# Altium integrated library Micron Memory Mobile LPDRAM.IntLib: 146 symbols (part 30 of 41)
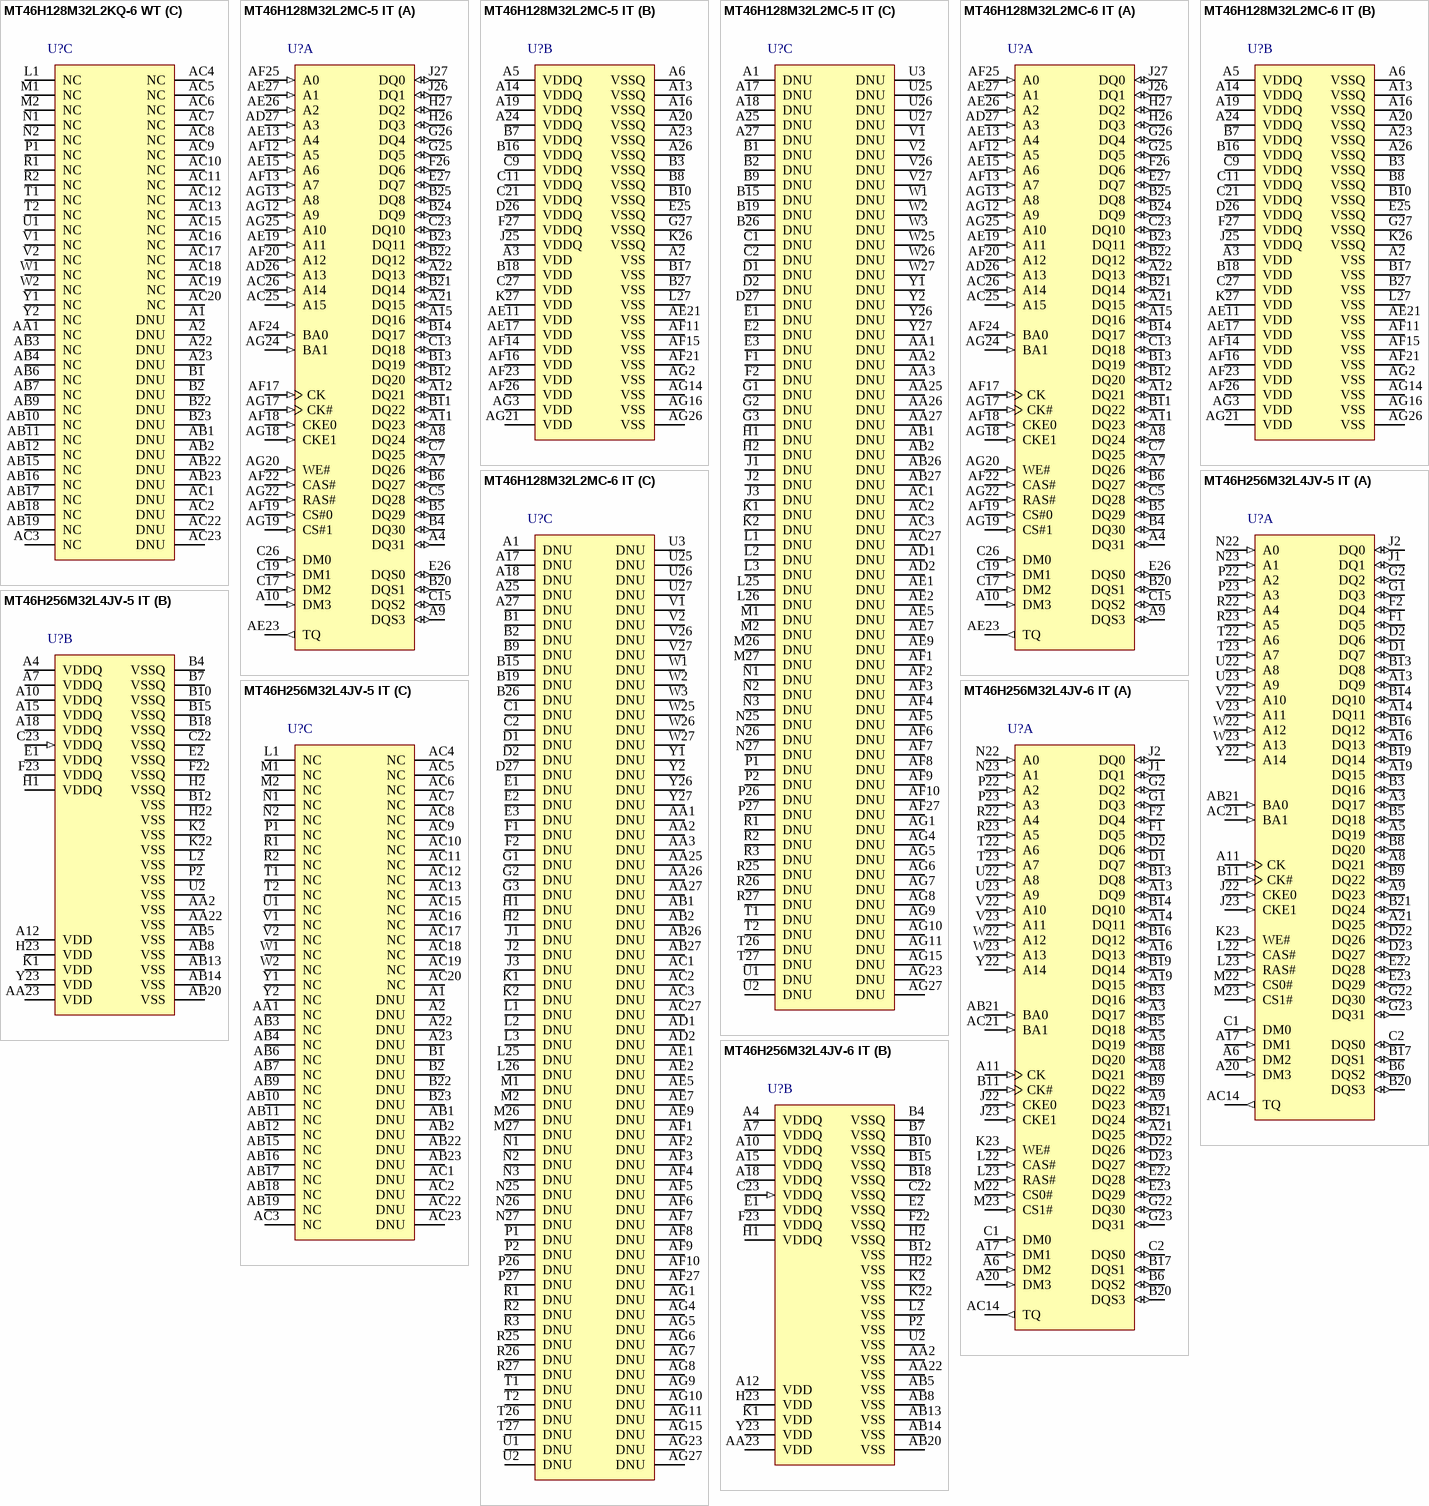
[diagram p53: symbols MT46H128M32L2KQ-6 WT to MT46H256M32L4JV-6 IT]

## MT46H128M32L2MC-5 IT
designator U?
4Gb LPDDR400 SDRAM, 128Mb x 32, 5ns, 1.8V, -40 to 85 degC, 240-Pin POP, Pb-Free; Manufacturer: Micron; PartNumber: MT46H128M32L2MC-5 IT; Clock Rate: 200 MHz; Op. Temp.: -40C to +85C; DatasheetVersion: Rev.E; PackageVersion: Rev.E; PackageReference: MICT-MC-240; PackageDescription: 240-Ball WFBGA, 14 x 14 mm, Pitch 0.5 mm; Cycle Time: 5ns; Data Rate: LPDDR400; Density: 4Gb; Depth: 128Mb; Package: POP; Part Status: Production; Pin Count: 240-ball; RoHS: Yes; Technology: Mobile LPDDR; Voltage: 1.8V; Width: x32; Mounting Technology: Surface Mount; ComponentLink1Description: Manufacturer URL; ComponentLink1URL: http://www.micron.com/; ComponentLink2Description: Datasheet; ComponentLink2URL: http://www.micron.com/~/media/Documents/Products/Data%20Sheet/DRAM/Mobile%20DRAM/Low-Power%20DRAM/LPDDR/70-series/T79M_2Gb_mobile_lpddr_sdram.pdf; ComponentLink3Description: Package Specification; ComponentLink3URL: http://www.micron.com/~/media/Documents/Products/Data%20Sheet/DRAM/Mobile%20DRAM/Low-Power%20DRAM/LPDDR/70-series/T79M_2Gb_mobile_lpddr_sdram.pdf
footprint MICT-MC-240 (BGA, 240-Balls, Body 14x14 mm, Pitch 0.5 mm)
part A pins: A4 DQ31 (io) "Data input/output: Data bus for x16 and x32.", A7 DQ26 (io) "Data input/output: Data bus for x16 and x32.", A8 DQ24 (io) "Data input/output: Data bus for x16 and x32.", A9 DQS3 (io) "Data input/output: Data bus for x16 and x32.", A10 DM3 (in) "Input data mask: DM is an input mask signal for write data. Input data is masked when DM is sampled HIGH along with that input data during a WRITE access. DM is sampled on both edges of DQS. Although DM balls are input-only, (See Datasheet)", A11 DQ23 (io) "Data input/output: Data bus for x16 and x32.", A12 DQ21 (io) "Data input/output: Data bus for x16 and x32.", A15 DQ16 (io) "Data input/output: Data bus for x16 and x32.", A21 DQ15 (io) "Data input/output: Data bus for x16 and x32.", A22 DQ13 (io) "Data input/output: Data bus for x16 and x32.", AC25 A15 (in) "Address inputs: Provide the row address for ACTIVE commands, and the column address and auto precharge bit (A10) for READ or WRITE commands, to select one location out of the memory array in the respective bank. During a (See Datasheet)", AC26 A14 (in) "Address inputs: Provide the row address for ACTIVE commands, and the column address and auto precharge bit (A10) for READ or WRITE commands, to select one location out of the memory array in the respective bank. During a (See Datasheet)", AD26 A13 (in) "Address inputs: Provide the row address for ACTIVE commands, and the column address and auto precharge bit (A10) for READ or WRITE commands, to select one location out of the memory array in the respective bank. During a (See Datasheet)", AD27 A3 (in) "Address inputs: Provide the row address for ACTIVE commands, and the column address and auto precharge bit (A10) for READ or WRITE commands, to select one location out of the memory array in the respective bank. During a (See Datasheet)", AE13 A4 (in) "Address inputs: Provide the row address for ACTIVE commands, and the column address and auto precharge bit (A10) for READ or WRITE commands, to select one location out of the memory array in the respective bank. During a (See Datasheet)", AE15 A6 (in) "Address inputs: Provide the row address for ACTIVE commands, and the column address and auto precharge bit (A10) for READ or WRITE commands, to select one location out of the memory array in the respective bank. During a (See Datasheet)", AE19 A11 (in) "Address inputs: Provide the row address for ACTIVE commands, and the column address and auto precharge bit (A10) for READ or WRITE commands, to select one location out of the memory array in the respective bank. During a (See Datasheet)", AE23 TQ (out) "Temperature sensor output: TQ HIGH when LPDDR TJ exceeds 85degreesC.", AE26 A2 (in) "Address inputs: Provide the row address for ACTIVE commands, and the column address and auto precharge bit (A10) for READ or WRITE commands, to select one location out of the memory array in the respective bank. During a (See Datasheet)", AE27 A1 (in) "Address inputs: Provide the row address for ACTIVE commands, and the column address and auto precharge bit (A10) for READ or WRITE commands, to select one location out of the memory array in the respective bank. During a (See Datasheet)", AF12 A5 (in) "Address inputs: Provide the row address for ACTIVE commands, and the column address and auto precharge bit (A10) for READ or WRITE commands, to select one location out of the memory array in the respective bank. During a (See Datasheet)", AF13 A7 (in) "Address inputs: Provide the row address for ACTIVE commands, and the column address and auto precharge bit (A10) for READ or WRITE commands, to select one location out of the memory array in the respective bank. During a (See Datasheet)", AF17 CK (in) "Clock: CK is the system clock input. CK and CK# are differential clock inputs. All address and control input signals are sampled on the crossing of the positive edge of CK and the negative edge of CK#. Input and output data (See Datasheet)", AF18 CKE0 (in) "Clock enable: CKE HIGH activates, and CKE LOW deactivates, the internal clock signals, input buffers, and output drivers. Taking CKE LOW enables PRECHARGE power-down and SELF REFRESH operations (all banks idle), or ACTIVE (See Datasheet)", AF19 CS#0 (in) "Chip select: CS# enables (registered LOW) and disables (registered HIGH) the command decoder. All commands are masked when CS# is registered HIGH. CS# provides for external bank selection on systems with multiple banks. CS# (See Datasheet)", AF20 A12 (in) "Address inputs: Provide the row address for ACTIVE commands, and the column address and auto precharge bit (A10) for READ or WRITE commands, to select one location out of the memory array in the respective bank. During a (See Datasheet)", AF22 CAS# (in), AF24 BA0 (in) "Bank address inputs: BA0 and BA1 define to which bank an ACTIVE, READ, WRITE, or PRECHARGE command is being applied. BA0 and BA1 also determine which mode register is loaded during a LOAD MODE REGISTER command.", AF25 A0 (in) "Address inputs: Provide the row address for ACTIVE commands, and the column address and auto precharge bit (A10) for READ or WRITE commands, to select one location out of the memory array in the respective bank. During a (See Datasheet)", AG12 A9 (in) "Address inputs: Provide the row address for ACTIVE commands, and the column address and auto precharge bit (A10) for READ or WRITE commands, to select one location out of the memory array in the respective bank. During a (See Datasheet)", AG13 A8 (in) "Address inputs: Provide the row address for ACTIVE commands, and the column address and auto precharge bit (A10) for READ or WRITE commands, to select one location out of the memory array in the respective bank. During a (See Datasheet)", AG17 CK# (in) "Clock: CK is the system clock input. CK and CK# are differential clock inputs. All address and control input signals are sampled on the crossing of the positive edge of CK and the negative edge of CK#. Input and output data (See Datasheet)", AG18 CKE1 (in) "Clock enable: CKE HIGH activates, and CKE LOW deactivates, the internal clock signals, input buffers, and output drivers. Taking CKE LOW enables PRECHARGE power-down and SELF REFRESH operations (all banks idle), or ACTIVE (See Datasheet)", AG19 CS#1 (in) "Chip select: CS# enables (registered LOW) and disables (registered HIGH) the command decoder. All commands are masked when CS# is registered HIGH. CS# provides for external bank selection on systems with multiple banks. CS# (See Datasheet)", AG20 WE# (in) "Command inputs: RAS#, CAS#, and WE# (along with CS#) define the command being entered.", AG22 RAS# (in) "Command inputs: RAS#, CAS#, and WE# (along with CS#) define the command being entered.", AG24 BA1 (in) "Bank address inputs: BA0 and BA1 define to which bank an ACTIVE, READ, WRITE, or PRECHARGE command is being applied. BA0 and BA1 also determine which mode register is loaded during a LOAD MODE REGISTER command.", AG25 A10 (in) "Address inputs: Provide the row address for ACTIVE commands, and the column address and auto precharge bit (A10) for READ or WRITE commands, to select one location out of the memory array in the respective bank. During a (See Datasheet)", B4 DQ30 (io) "Data input/output: Data bus for x16 and x32.", B5 DQ29 (io) "Data input/output: Data bus for x16 and x32.", B6 DQ27 (io) "Data input/output: Data bus for x16 and x32.", B11 DQ22 (io) "Data input/output: Data bus for x16 and x32.", B12 DQ20 (io) "Data input/output: Data bus for x16 and x32.", B13 DQ19 (io) "Data input/output: Data bus for x16 and x32.", B14 DQ17 (io) "Data input/output: Data bus for x16 and x32.", B20 DQS1 (io) "Data strobe: Output with read data, input with write data. DQS is edge-aligned with read data, center-aligned in write data. It is used to capture data.", B21 DQ14 (io) "Data input/output: Data bus for x16 and x32.", B22 DQ12 (io) "Data input/output: Data bus for x16 and x32.", B23 DQ11 (io) "Data input/output: Data bus for x16 and x32.", B24 DQ9 (io) "Data input/output: Data bus for x16 and x32.", B25 DQ8 (io) "Data input/output: Data bus for x16 and x32.", C5 DQ28 (io) "Data input/output: Data bus for x16 and x32.", C7 DQ25 (io) "Data input/output: Data bus for x16 and x32.", C13 DQ18 (io) "Data input/output: Data bus for x16 and x32.", C15 DQS2 (io) "Data strobe: Output with read data, input with write data. DQS is edge-aligned with read data, center-aligned in write data. It is used to capture data.", C17 DM2 (in) "Input data mask: DM is an input mask signal for write data. Input data is masked when DM is sampled HIGH along with that input data during a WRITE access. DM is sampled on both edges of DQS. Although DM balls are input-only, (See Datasheet)", C19 DM1 (in) "Input data mask: DM is an input mask signal for write data. Input data is masked when DM is sampled HIGH along with that input data during a WRITE access. DM is sampled on both edges of DQS. Although DM balls are input-only, (See Datasheet)", C23 DQ10 (io) "Data input/output: Data bus for x16 and x32.", C26 DM0 (in) "Input data mask: DM is an input mask signal for write data. Input data is masked when DM is sampled HIGH along with that input data during a WRITE access. DM is sampled on both edges of DQS. Although DM balls are input-only, (See Datasheet)", E26 DQS0 (io) "Data strobe: Output with read data, input with write data. DQS is edge-aligned with read data, center-aligned in write data. It is used to capture data.", E27 DQ7 (io) "Data input/output: Data bus for x16 and x32.", F26 DQ6 (io) "Data input/output: Data bus for x16 and x32.", G25 DQ5 (io) "Data input/output: Data bus for x16 and x32.", G26 DQ4 (io) "Data input/output: Data bus for x16 and x32.", H26 DQ3 (io) "Data input/output: Data bus for x16 and x32.", H27 DQ2 (io) "Data input/output: Data bus for x16 and x32.", J26 DQ1 (io) "Data input/output: Data bus for x16 and x32.", J27 DQ0 (io) "Data input/output: Data bus for x16 and x32."
part B pins: A2 VSS (power) "Ground.", A3 VDD (power) "Power supply.", A5 VDDQ (power) "DQ power supply.", A6 VSSQ (power) "DQ ground.", A13 VSSQ (power) "DQ ground.", A14 VDDQ (power) "DQ power supply.", A16 VSSQ (power) "DQ ground.", A19 VDDQ (power) "DQ power supply.", A20 VSSQ (power) "DQ ground.", A23 VSSQ (power) "DQ ground.", A24 VDDQ (power) "DQ power supply.", A26 VSSQ (power) "DQ ground.", AE11 VDD (power), AE17 VDD (power), AE21 VSS (power) "Ground.", AF11 VSS (power) "Ground.", AF14 VDD (power) "Power supply.", AF15 VSS (power) "Ground.", AF16 VDD (power) "Power supply.", AF21 VSS (power) "Ground.", AF23 VDD (power) "Power supply.", AF26 VDD (power) "Power supply.", AG2 VSS (power) "Ground.", AG3 VDD (power) "Power supply.", AG14 VSS (power) "Ground.", AG16 VSS (power) "Ground.", AG21 VDD (power) "Power supply.", AG26 VSS (power) "Ground.", B3 VSSQ (power) "DQ ground.", B7 VDDQ (power) "DQ power supply.", B8 VSSQ (power) "DQ ground.", B10 VSSQ (power) "DQ ground.", B16 VDDQ (power) "DQ power supply.", B17 VSS (power) "Ground.", B18 VDD (power) "Power supply.", B27 VSS (power) "Ground.", C9 VDDQ (power), C11 VDDQ (power), C21 VDDQ (power) "DQ power supply.", C27 VDD (power) "Power supply.", D26 VDDQ (power) "DQ power supply.", E25 VSSQ (power) "DQ ground.", F27 VDDQ (power) "DQ power supply.", G27 VSSQ (power), J25 VDDQ (power) "DQ power supply.", K26 VSSQ (power) "DQ ground.", K27 VDD (power) "Power supply.", L27 VSS (power) "Ground."
part C pins: A1 DNU, A17 DNU, A18 DNU, A25 DNU, A27 DNU, AA1 DNU, AA2 DNU, AA3 DNU, AA25 DNU, AA26 DNU, AA27 DNU, AB1 DNU, AB2 DNU, AB26 DNU, AB27 DNU, AC1 DNU, AC2 DNU, AC3 DNU, AC27 DNU, AD1 DNU, AD2 DNU, AE1 DNU, AE2 DNU, AE5 DNU, AE7 DNU, AE9 DNU, AF1 DNU, AF2 DNU, AF3 DNU, AF4 DNU, AF5 DNU, AF6 DNU, AF7 DNU, AF8 DNU, AF9 DNU, AF10 DNU, AF27 DNU, AG1 DNU, AG4 DNU, AG5 DNU, AG6 DNU, AG7 DNU, AG8 DNU, AG9 DNU, AG10 DNU, AG11 DNU, AG15 DNU, AG23 DNU, AG27 DNU, B1 DNU, B2 DNU, B9 DNU, B15 DNU, B19 DNU, B26 DNU, C1 DNU, C2 DNU, D1 DNU, D2 DNU, D27 DNU, E1 DNU, E2 DNU, E3 DNU, F1 DNU, F2 DNU, G1 DNU, G2 DNU, G3 DNU, H1 DNU, H2 DNU, J1 DNU, J2 DNU, J3 DNU, K1 DNU, K2 DNU, L1 DNU, L2 DNU, L3 DNU, L25 DNU, L26 DNU, M1 DNU, M2 DNU, M26 DNU, M27 DNU, N1 DNU, N2 DNU, N3 DNU, N25 DNU, N26 DNU, N27 DNU, P1 DNU, P2 DNU, P26 DNU, P27 DNU, R1 DNU, R2 DNU, R3 DNU, R25 DNU, R26 DNU, R27 DNU, T1 DNU, T2 DNU, T26 DNU, T27 DNU, U1 DNU, U2 DNU, U3 DNU, U25 DNU, U26 DNU, U27 DNU, V1 DNU, V2 DNU, V26 DNU, V27 DNU, W1 DNU, W2 DNU, W3 DNU, W25 DNU, W26 DNU, W27 DNU, Y1 DNU, Y2 DNU, Y26 DNU, Y27 DNU

## MT46H128M32L2MC-6 IT
designator U?
4Gb LPDDR333 SDRAM, 128Mb x 32, 6ns, 1.8V, -40 to 85 degC, 240-Pin POP, Pb-Free; Manufacturer: Micron; PartNumber: MT46H128M32L2MC-6 IT; Clock Rate: 167 MHz; Op. Temp.: -40C to +85C; DatasheetVersion: Rev.E; PackageVersion: Rev.E; PackageReference: MICT-MC-240; PackageDescription: 240-Ball WFBGA, 14 x 14 mm, Pitch 0.5 mm; Cycle Time: 6ns; Data Rate: LPDDR333; Density: 4Gb; Depth: 128Mb; Package: POP; Part Status: Production; Pin Count: 240-ball; RoHS: Yes; Technology: Mobile LPDDR; Voltage: 1.8V; Width: x32; Mounting Technology: Surface Mount; ComponentLink1Description: Manufacturer URL; ComponentLink1URL: http://www.micron.com/; ComponentLink2Description: Datasheet; ComponentLink2URL: http://www.micron.com/~/media/Documents/Products/Data%20Sheet/DRAM/Mobile%20DRAM/Low-Power%20DRAM/LPDDR/70-series/T79M_2Gb_mobile_lpddr_sdram.pdf; ComponentLink3Description: Package Specification; ComponentLink3URL: http://www.micron.com/~/media/Documents/Products/Data%20Sheet/DRAM/Mobile%20DRAM/Low-Power%20DRAM/LPDDR/70-series/T79M_2Gb_mobile_lpddr_sdram.pdf
footprint MICT-MC-240 (BGA, 240-Balls, Body 14x14 mm, Pitch 0.5 mm)
part A pins: A4 DQ31 (io) "Data input/output: Data bus for x16 and x32.", A7 DQ26 (io) "Data input/output: Data bus for x16 and x32.", A8 DQ24 (io) "Data input/output: Data bus for x16 and x32.", A9 DQS3 (io) "Data input/output: Data bus for x16 and x32.", A10 DM3 (in) "Input data mask: DM is an input mask signal for write data. Input data is masked when DM is sampled HIGH along with that input data during a WRITE access. DM is sampled on both edges of DQS. Although DM balls are input-only, (See Datasheet)", A11 DQ23 (io) "Data input/output: Data bus for x16 and x32.", A12 DQ21 (io) "Data input/output: Data bus for x16 and x32.", A15 DQ16 (io) "Data input/output: Data bus for x16 and x32.", A21 DQ15 (io) "Data input/output: Data bus for x16 and x32.", A22 DQ13 (io) "Data input/output: Data bus for x16 and x32.", AC25 A15 (in) "Address inputs: Provide the row address for ACTIVE commands, and the column address and auto precharge bit (A10) for READ or WRITE commands, to select one location out of the memory array in the respective bank. During a (See Datasheet)", AC26 A14 (in) "Address inputs: Provide the row address for ACTIVE commands, and the column address and auto precharge bit (A10) for READ or WRITE commands, to select one location out of the memory array in the respective bank. During a (See Datasheet)", AD26 A13 (in) "Address inputs: Provide the row address for ACTIVE commands, and the column address and auto precharge bit (A10) for READ or WRITE commands, to select one location out of the memory array in the respective bank. During a (See Datasheet)", AD27 A3 (in) "Address inputs: Provide the row address for ACTIVE commands, and the column address and auto precharge bit (A10) for READ or WRITE commands, to select one location out of the memory array in the respective bank. During a (See Datasheet)", AE13 A4 (in) "Address inputs: Provide the row address for ACTIVE commands, and the column address and auto precharge bit (A10) for READ or WRITE commands, to select one location out of the memory array in the respective bank. During a (See Datasheet)", AE15 A6 (in) "Address inputs: Provide the row address for ACTIVE commands, and the column address and auto precharge bit (A10) for READ or WRITE commands, to select one location out of the memory array in the respective bank. During a (See Datasheet)", AE19 A11 (in) "Address inputs: Provide the row address for ACTIVE commands, and the column address and auto precharge bit (A10) for READ or WRITE commands, to select one location out of the memory array in the respective bank. During a (See Datasheet)", AE23 TQ (out) "Temperature sensor output: TQ HIGH when LPDDR TJ exceeds 85degreesC.", AE26 A2 (in) "Address inputs: Provide the row address for ACTIVE commands, and the column address and auto precharge bit (A10) for READ or WRITE commands, to select one location out of the memory array in the respective bank. During a (See Datasheet)", AE27 A1 (in) "Address inputs: Provide the row address for ACTIVE commands, and the column address and auto precharge bit (A10) for READ or WRITE commands, to select one location out of the memory array in the respective bank. During a (See Datasheet)", AF12 A5 (in) "Address inputs: Provide the row address for ACTIVE commands, and the column address and auto precharge bit (A10) for READ or WRITE commands, to select one location out of the memory array in the respective bank. During a (See Datasheet)", AF13 A7 (in) "Address inputs: Provide the row address for ACTIVE commands, and the column address and auto precharge bit (A10) for READ or WRITE commands, to select one location out of the memory array in the respective bank. During a (See Datasheet)", AF17 CK (in) "Clock: CK is the system clock input. CK and CK# are differential clock inputs. All address and control input signals are sampled on the crossing of the positive edge of CK and the negative edge of CK#. Input and output data (See Datasheet)", AF18 CKE0 (in) "Clock enable: CKE HIGH activates, and CKE LOW deactivates, the internal clock signals, input buffers, and output drivers. Taking CKE LOW enables PRECHARGE power-down and SELF REFRESH operations (all banks idle), or ACTIVE (See Datasheet)", AF19 CS#0 (in) "Chip select: CS# enables (registered LOW) and disables (registered HIGH) the command decoder. All commands are masked when CS# is registered HIGH. CS# provides for external bank selection on systems with multiple banks. CS# (See Datasheet)", AF20 A12 (in) "Address inputs: Provide the row address for ACTIVE commands, and the column address and auto precharge bit (A10) for READ or WRITE commands, to select one location out of the memory array in the respective bank. During a (See Datasheet)", AF22 CAS# (in), AF24 BA0 (in) "Bank address inputs: BA0 and BA1 define to which bank an ACTIVE, READ, WRITE, or PRECHARGE command is being applied. BA0 and BA1 also determine which mode register is loaded during a LOAD MODE REGISTER command.", AF25 A0 (in) "Address inputs: Provide the row address for ACTIVE commands, and the column address and auto precharge bit (A10) for READ or WRITE commands, to select one location out of the memory array in the respective bank. During a (See Datasheet)", AG12 A9 (in) "Address inputs: Provide the row address for ACTIVE commands, and the column address and auto precharge bit (A10) for READ or WRITE commands, to select one location out of the memory array in the respective bank. During a (See Datasheet)", AG13 A8 (in) "Address inputs: Provide the row address for ACTIVE commands, and the column address and auto precharge bit (A10) for READ or WRITE commands, to select one location out of the memory array in the respective bank. During a (See Datasheet)", AG17 CK# (in) "Clock: CK is the system clock input. CK and CK# are differential clock inputs. All address and control input signals are sampled on the crossing of the positive edge of CK and the negative edge of CK#. Input and output data (See Datasheet)", AG18 CKE1 (in) "Clock enable: CKE HIGH activates, and CKE LOW deactivates, the internal clock signals, input buffers, and output drivers. Taking CKE LOW enables PRECHARGE power-down and SELF REFRESH operations (all banks idle), or ACTIVE (See Datasheet)", AG19 CS#1 (in) "Chip select: CS# enables (registered LOW) and disables (registered HIGH) the command decoder. All commands are masked when CS# is registered HIGH. CS# provides for external bank selection on systems with multiple banks. CS# (See Datasheet)", AG20 WE# (in) "Command inputs: RAS#, CAS#, and WE# (along with CS#) define the command being entered.", AG22 RAS# (in) "Command inputs: RAS#, CAS#, and WE# (along with CS#) define the command being entered.", AG24 BA1 (in) "Bank address inputs: BA0 and BA1 define to which bank an ACTIVE, READ, WRITE, or PRECHARGE command is being applied. BA0 and BA1 also determine which mode register is loaded during a LOAD MODE REGISTER command.", AG25 A10 (in) "Address inputs: Provide the row address for ACTIVE commands, and the column address and auto precharge bit (A10) for READ or WRITE commands, to select one location out of the memory array in the respective bank. During a (See Datasheet)", B4 DQ30 (io) "Data input/output: Data bus for x16 and x32.", B5 DQ29 (io) "Data input/output: Data bus for x16 and x32.", B6 DQ27 (io) "Data input/output: Data bus for x16 and x32.", B11 DQ22 (io) "Data input/output: Data bus for x16 and x32.", B12 DQ20 (io) "Data input/output: Data bus for x16 and x32.", B13 DQ19 (io) "Data input/output: Data bus for x16 and x32.", B14 DQ17 (io) "Data input/output: Data bus for x16 and x32.", B20 DQS1 (io) "Data strobe: Output with read data, input with write data. DQS is edge-aligned with read data, center-aligned in write data. It is used to capture data.", B21 DQ14 (io) "Data input/output: Data bus for x16 and x32.", B22 DQ12 (io) "Data input/output: Data bus for x16 and x32.", B23 DQ11 (io) "Data input/output: Data bus for x16 and x32.", B24 DQ9 (io) "Data input/output: Data bus for x16 and x32.", B25 DQ8 (io) "Data input/output: Data bus for x16 and x32.", C5 DQ28 (io) "Data input/output: Data bus for x16 and x32.", C7 DQ25 (io) "Data input/output: Data bus for x16 and x32.", C13 DQ18 (io) "Data input/output: Data bus for x16 and x32.", C15 DQS2 (io) "Data strobe: Output with read data, input with write data. DQS is edge-aligned with read data, center-aligned in write data. It is used to capture data.", C17 DM2 (in) "Input data mask: DM is an input mask signal for write data. Input data is masked when DM is sampled HIGH along with that input data during a WRITE access. DM is sampled on both edges of DQS. Although DM balls are input-only, (See Datasheet)", C19 DM1 (in) "Input data mask: DM is an input mask signal for write data. Input data is masked when DM is sampled HIGH along with that input data during a WRITE access. DM is sampled on both edges of DQS. Although DM balls are input-only, (See Datasheet)", C23 DQ10 (io) "Data input/output: Data bus for x16 and x32.", C26 DM0 (in) "Input data mask: DM is an input mask signal for write data. Input data is masked when DM is sampled HIGH along with that input data during a WRITE access. DM is sampled on both edges of DQS. Although DM balls are input-only, (See Datasheet)", E26 DQS0 (io) "Data strobe: Output with read data, input with write data. DQS is edge-aligned with read data, center-aligned in write data. It is used to capture data.", E27 DQ7 (io) "Data input/output: Data bus for x16 and x32.", F26 DQ6 (io) "Data input/output: Data bus for x16 and x32.", G25 DQ5 (io) "Data input/output: Data bus for x16 and x32.", G26 DQ4 (io) "Data input/output: Data bus for x16 and x32.", H26 DQ3 (io) "Data input/output: Data bus for x16 and x32.", H27 DQ2 (io) "Data input/output: Data bus for x16 and x32.", J26 DQ1 (io) "Data input/output: Data bus for x16 and x32.", J27 DQ0 (io) "Data input/output: Data bus for x16 and x32."
part B pins: A2 VSS (power) "Ground.", A3 VDD (power) "Power supply.", A5 VDDQ (power) "DQ power supply.", A6 VSSQ (power) "DQ ground.", A13 VSSQ (power) "DQ ground.", A14 VDDQ (power) "DQ power supply.", A16 VSSQ (power) "DQ ground.", A19 VDDQ (power) "DQ power supply.", A20 VSSQ (power) "DQ ground.", A23 VSSQ (power) "DQ ground.", A24 VDDQ (power) "DQ power supply.", A26 VSSQ (power) "DQ ground.", AE11 VDD (power), AE17 VDD (power), AE21 VSS (power) "Ground.", AF11 VSS (power) "Ground.", AF14 VDD (power) "Power supply.", AF15 VSS (power) "Ground.", AF16 VDD (power) "Power supply.", AF21 VSS (power) "Ground.", AF23 VDD (power) "Power supply.", AF26 VDD (power) "Power supply.", AG2 VSS (power) "Ground.", AG3 VDD (power) "Power supply.", AG14 VSS (power) "Ground.", AG16 VSS (power) "Ground.", AG21 VDD (power) "Power supply.", AG26 VSS (power) "Ground.", B3 VSSQ (power) "DQ ground.", B7 VDDQ (power) "DQ power supply.", B8 VSSQ (power) "DQ ground.", B10 VSSQ (power) "DQ ground.", B16 VDDQ (power) "DQ power supply.", B17 VSS (power) "Ground.", B18 VDD (power) "Power supply.", B27 VSS (power) "Ground.", C9 VDDQ (power), C11 VDDQ (power), C21 VDDQ (power) "DQ power supply.", C27 VDD (power) "Power supply.", D26 VDDQ (power) "DQ power supply.", E25 VSSQ (power) "DQ ground.", F27 VDDQ (power) "DQ power supply.", G27 VSSQ (power), J25 VDDQ (power) "DQ power supply.", K26 VSSQ (power) "DQ ground.", K27 VDD (power) "Power supply.", L27 VSS (power) "Ground."
part C pins: A1 DNU, A17 DNU, A18 DNU, A25 DNU, A27 DNU, AA1 DNU, AA2 DNU, AA3 DNU, AA25 DNU, AA26 DNU, AA27 DNU, AB1 DNU, AB2 DNU, AB26 DNU, AB27 DNU, AC1 DNU, AC2 DNU, AC3 DNU, AC27 DNU, AD1 DNU, AD2 DNU, AE1 DNU, AE2 DNU, AE5 DNU, AE7 DNU, AE9 DNU, AF1 DNU, AF2 DNU, AF3 DNU, AF4 DNU, AF5 DNU, AF6 DNU, AF7 DNU, AF8 DNU, AF9 DNU, AF10 DNU, AF27 DNU, AG1 DNU, AG4 DNU, AG5 DNU, AG6 DNU, AG7 DNU, AG8 DNU, AG9 DNU, AG10 DNU, AG11 DNU, AG15 DNU, AG23 DNU, AG27 DNU, B1 DNU, B2 DNU, B9 DNU, B15 DNU, B19 DNU, B26 DNU, C1 DNU, C2 DNU, D1 DNU, D2 DNU, D27 DNU, E1 DNU, E2 DNU, E3 DNU, F1 DNU, F2 DNU, G1 DNU, G2 DNU, G3 DNU, H1 DNU, H2 DNU, J1 DNU, J2 DNU, J3 DNU, K1 DNU, K2 DNU, L1 DNU, L2 DNU, L3 DNU, L25 DNU, L26 DNU, M1 DNU, M2 DNU, M26 DNU, M27 DNU, N1 DNU, N2 DNU, N3 DNU, N25 DNU, N26 DNU, N27 DNU, P1 DNU, P2 DNU, P26 DNU, P27 DNU, R1 DNU, R2 DNU, R3 DNU, R25 DNU, R26 DNU, R27 DNU, T1 DNU, T2 DNU, T26 DNU, T27 DNU, U1 DNU, U2 DNU, U3 DNU, U25 DNU, U26 DNU, U27 DNU, V1 DNU, V2 DNU, V26 DNU, V27 DNU, W1 DNU, W2 DNU, W3 DNU, W25 DNU, W26 DNU, W27 DNU, Y1 DNU, Y2 DNU, Y26 DNU, Y27 DNU

## MT46H256M32L4JV-5 IT
designator U?
8Gb LPDDR400 SDRAM, 256Mb x 32, 5ns, 1.8V, -40 to 85 degC, 168-Pin POP, Pb-Free; Manufacturer: Micron; PartNumber: MT46H256M32L4JV-5 IT; Clock Rate: 200 MHz; Op. Temp.: -40C to +85C; DatasheetVersion: Rev.E; PackageVersion: Rev.E; PackageReference: MICT-JV-168; PackageDescription: 168-Ball POP, 12 x 12 mm, Pitch 0.5 mm; Cycle Time: 5ns; Data Rate: LPDDR400; Density: 8Gb; Depth: 256Mb; Package: POP; Part Status: Production; Pin Count: 168-ball; RoHS: Yes; Technology: Mobile LPDDR; Voltage: 1.8V; Width: x32; Mounting Technology: Surface Mount; ComponentLink1Description: Manufacturer URL; ComponentLink1URL: http://www.micron.com/; ComponentLink2Description: Datasheet; ComponentLink2URL: http://www.micron.com/~/media/Documents/Products/Data%20Sheet/DRAM/Mobile%20DRAM/Low-Power%20DRAM/LPDDR/70-series/T79M_2Gb_mobile_lpddr_sdram.pdf; ComponentLink3Description: Package Specification; ComponentLink3URL: http://www.micron.com/~/media/Documents/Products/Data%20Sheet/DRAM/Mobile%20DRAM/Low-Power%20DRAM/LPDDR/70-series/T79M_2Gb_mobile_lpddr_sdram.pdf
footprint MICT-JV-168 (BGA, 168-Balls, Body 12x12mm, Pitch 0.5mm)
part A pins: A3 DQ17 (io) "Data input/output: Data bus for x16 and x32.", A5 DQ19 (io) "Data input/output: Data bus for x16 and x32.", A6 DM2 (in) "Input data mask: DM is an input mask signal for write data. Input data is masked when DM is sampled HIGH along with that input data during a WRITE access. DM is sampled on both edges of DQS. Although DM balls are input-only, (See Datasheet)", A8 DQ21 (io) "Data input/output: Data bus for x16 and x32.", A9 DQ23 (io) "Data input/output: Data bus for x16 and x32.", A11 CK (in) "Clock: CK is the system clock input. CK and CK# are differential clock inputs. All address and control input signals are sampled on the crossing of the positive edge of CK and the negative edge of CK#. Input and output data (See Datasheet)", A13 DQ9 (io) "Data input/output: Data bus for x16 and x32.", A14 DQ11 (io) "Data input/output: Data bus for x16 and x32.", A16 DQ13 (io) "Data input/output: Data bus for x16 and x32.", A17 DM1 (in) "Input data mask: DM is an input mask signal for write data. Input data is masked when DM is sampled HIGH along with that input data during a WRITE access. DM is sampled on both edges of DQS. Although DM balls are input-only, (See Datasheet)", A19 DQ15 (io) "Data input/output: Data bus for x16 and x32.", A20 DM3 (in) "Input data mask: DM is an input mask signal for write data. Input data is masked when DM is sampled HIGH along with that input data during a WRITE access. DM is sampled on both edges of DQS. Although DM balls are input-only, (See Datasheet)", A21 DQ25 (io) "Data input/output: Data bus for x16 and x32.", AB21 BA0 (in) "Bank address inputs: BA0 and BA1 define to which bank an ACTIVE, READ, WRITE, or PRECHARGE command is being applied. BA0 and BA1 also determine which mode register is loaded during a LOAD MODE REGISTER command.", AC14 TQ (out) "Temperature sensor output: TQ HIGH when LPDDR TJ exceeds 85degreesC.", AC21 BA1 (in) "Bank address inputs: BA0 and BA1 define to which bank an ACTIVE, READ, WRITE, or PRECHARGE command is being applied. BA0 and BA1 also determine which mode register is loaded during a LOAD MODE REGISTER command.", B3 DQ16 (io) "Data input/output: Data bus for x16 and x32.", B5 DQ18 (io) "Data input/output: Data bus for x16 and x32.", B6 DQS2 (io) "Data strobe: Output with read data, input with write data. DQS is edge-aligned with read data, center-aligned in write data. It is used to capture data.", B8 DQ20 (io) "Data input/output: Data bus for x16 and x32.", B9 DQ22 (io) "Data input/output: Data bus for x16 and x32.", B11 CK# (in) "Clock: CK is the system clock input. CK and CK# are differential clock inputs. All address and control input signals are sampled on the crossing of the positive edge of CK and the negative edge of CK#. Input and output data (See Datasheet)", B13 DQ8 (io) "Data input/output: Data bus for x16 and x32.", B14 DQ10 (io) "Data input/output: Data bus for x16 and x32.", B16 DQ12 (io) "Data input/output: Data bus for x16 and x32.", B17 DQS1 (io) "Data strobe: Output with read data, input with write data. DQS is edge-aligned with read data, center-aligned in write data. It is used to capture data.", B19 DQ14 (io) "Data input/output: Data bus for x16 and x32.", B20 DQS3 (io) "Data strobe: Output with read data, input with write data. DQS is edge-aligned with read data, center-aligned in write data. It is used to capture data.", B21 DQ24 (io) "Data input/output: Data bus for x16 and x32.", C1 DM0 (in) "Input data mask: DM is an input mask signal for write data. Input data is masked when DM is sampled HIGH along with that input data during a WRITE access. DM is sampled on both edges of DQS. Although DM balls are input-only, (See Datasheet)", C2 DQS0 (io) "Data strobe: Output with read data, input with write data. DQS is edge-aligned with read data, center-aligned in write data. It is used to capture data.", D1 DQ7 (io) "Data input/output: Data bus for x16 and x32.", D2 DQ6 (io) "Data input/output: Data bus for x16 and x32.", D22 DQ26 (io) "Data input/output: Data bus for x16 and x32.", D23 DQ27 (io) "Data input/output: Data bus for x16 and x32.", E22 DQ28 (io) "Data input/output: Data bus for x16 and x32.", E23 DQ29 (io) "Data input/output: Data bus for x16 and x32.", F1 DQ5 (io) "Data input/output: Data bus for x16 and x32.", F2 DQ4 (io) "Data input/output: Data bus for x16 and x32.", G1 DQ3 (io) "Data input/output: Data bus for x16 and x32.", G2 DQ2 (io) "Data input/output: Data bus for x16 and x32.", G22 DQ30 (io) "Data input/output: Data bus for x16 and x32.", G23 DQ31 (io) "Data input/output: Data bus for x16 and x32.", J1 DQ1 (io) "Data input/output: Data bus for x16 and x32.", J2 DQ0 (io) "Data input/output: Data bus for x16 and x32.", J22 CKE0 (in) "Clock enable: CKE HIGH activates, and CKE LOW deactivates, the internal clock signals, input buffers, and output drivers. Taking CKE LOW enables PRECHARGE power-down and SELF REFRESH operations (all banks idle), or ACTIVE (See Datasheet)", J23 CKE1 (in) "Clock enable: CKE HIGH activates, and CKE LOW deactivates, the internal clock signals, input buffers, and output drivers. Taking CKE LOW enables PRECHARGE power-down and SELF REFRESH operations (all banks idle), or ACTIVE (See Datasheet)", K23 WE# (in) "Command inputs: RAS#, CAS#, and WE# (along with CS#) define the command being entered.", L22 CAS# (in) "Command inputs: RAS#, CAS#, and WE# (along with CS#) define the command being entered.", L23 RAS# (in) "Command inputs: RAS#, CAS#, and WE# (along with CS#) define the command being entered.", M22 CS0# (in) "Chip select: CS# enables (registered LOW) and disables (registered HIGH) the command decoder. All commands are masked when CS# is registered HIGH. CS# provides for external bank selection on systems with multiple banks. CS# (See Datasheet)", M23 CS1# (in) "Chip select: CS# enables (registered LOW) and disables (registered HIGH) the command decoder. All commands are masked when CS# is registered HIGH. CS# provides for external bank selection on systems with multiple banks. CS# (See Datasheet)", N22 A0 (in) "Address inputs: Provide the row address for ACTIVE commands, and the column address and auto precharge bit (A10) for READ or WRITE commands, to select one location out of the memory array in the respective bank. During a (See Datasheet)", N23 A1 (in) "Address inputs: Provide the row address for ACTIVE commands, and the column address and auto precharge bit (A10) for READ or WRITE commands, to select one location out of the memory array in the respective bank. During a (See Datasheet)", P22 A2 (in) "Address inputs: Provide the row address for ACTIVE commands, and the column address and auto precharge bit (A10) for READ or WRITE commands, to select one location out of the memory array in the respective bank. During a (See Datasheet)", P23 A3 (in) "Address inputs: Provide the row address for ACTIVE commands, and the column address and auto precharge bit (A10) for READ or WRITE commands, to select one location out of the memory array in the respective bank. During a (See Datasheet)", R22 A4 (in) "Address inputs: Provide the row address for ACTIVE commands, and the column address and auto precharge bit (A10) for READ or WRITE commands, to select one location out of the memory array in the respective bank. During a (See Datasheet)", R23 A5 (in) "Address inputs: Provide the row address for ACTIVE commands, and the column address and auto precharge bit (A10) for READ or WRITE commands, to select one location out of the memory array in the respective bank. During a (See Datasheet)", T22 A6 (in) "Address inputs: Provide the row address for ACTIVE commands, and the column address and auto precharge bit (A10) for READ or WRITE commands, to select one location out of the memory array in the respective bank. During a (See Datasheet)", T23 A7 (in) "Address inputs: Provide the row address for ACTIVE commands, and the column address and auto precharge bit (A10) for READ or WRITE commands, to select one location out of the memory array in the respective bank. During a (See Datasheet)", U22 A8 (in) "Address inputs: Provide the row address for ACTIVE commands, and the column address and auto precharge bit (A10) for READ or WRITE commands, to select one location out of the memory array in the respective bank. During a (See Datasheet)", U23 A9 (in) "Address inputs: Provide the row address for ACTIVE commands, and the column address and auto precharge bit (A10) for READ or WRITE commands, to select one location out of the memory array in the respective bank. During a (See Datasheet)", V22 A10 (in) "Address inputs: Provide the row address for ACTIVE commands, and the column address and auto precharge bit (A10) for READ or WRITE commands, to select one location out of the memory array in the respective bank. During a (See Datasheet)", V23 A11 (in) "Address inputs: Provide the row address for ACTIVE commands, and the column address and auto precharge bit (A10) for READ or WRITE commands, to select one location out of the memory array in the respective bank. During a (See Datasheet)", W22 A12 (in) "Address inputs: Provide the row address for ACTIVE commands, and the column address and auto precharge bit (A10) for READ or WRITE commands, to select one location out of the memory array in the respective bank. During a (See Datasheet)", W23 A13 (in) "Address inputs: Provide the row address for ACTIVE commands, and the column address and auto precharge bit (A10) for READ or WRITE commands, to select one location out of the memory array in the respective bank. During a (See Datasheet)", Y22 A14 (in) "Address inputs: Provide the row address for ACTIVE commands, and the column address and auto precharge bit (A10) for READ or WRITE commands, to select one location out of the memory array in the respective bank. During a (See Datasheet)"
part B pins: A4 VDDQ (power) "DQ power supply.", A7 VDDQ (power) "DQ power supply.", A10 VDDQ (power) "DQ power supply.", A12 VDD (power) "DQ power supply.", A15 VDDQ (power) "DQ power supply.", A18 VDDQ (power) "DQ power supply.", AA2 VSS (power) "Ground.", AA22 VSS (power) "Ground.", AA23 VDD (power) "Power supply.", AB5 VSS (power) "Ground.", AB8 VSS (power) "Ground.", AB13 VSS (power) "Ground.", AB14 VSS (power) "Ground.", AB20 VSS (power) "Ground.", B4 VSSQ (power) "DQ ground.", B7 VSSQ (power) "DQ ground.", B10 VSSQ (power) "DQ ground.", B12 VSS (power) "Ground.", B15 VSSQ (power) "DQ ground.", B18 VSSQ (power) "DQ ground.", C22 VSSQ (power) "DQ ground.", C23 VDDQ (in) "DQ power supply.", E1 VDDQ (power) "DQ power supply.", E2 VSSQ (power) "DQ ground.", F22 VSSQ (power) "DQ ground.", F23 VDDQ (power) "DQ power supply.", H1 VDDQ (power) "DQ power supply.", H2 VSSQ (power) "DQ ground.", H22 VSS (power) "Ground.", H23 VDD (power) "Power supply.", K1 VDD (power) "Power supply.", K2 VSS (power) "Ground.", K22 VSS (power) "Ground.", L2 VSS (power) "Ground.", P2 VSS (power) "Ground.", U2 VSS (power) "Ground.", Y23 VDD (power) "Power supply."
part C pins: A1 DNU "Do not used.", A2 DNU "Do not used.", A22 DNU "Do not used.", A23 DNU "Do not used.", AA1 NC "No connect: May be left unconnected.", AB1 DNU "Do not used.", AB2 DNU "Do not used.", AB3 NC "No connect: May be left unconnected.", AB4 NC "No connect: May be left unconnected.", AB6 NC "No connect: May be left unconnected.", AB7 NC "No connect: May be left unconnected.", AB9 NC "No connect: May be left unconnected.", AB10 NC "No connect: May be left unconnected.", AB11 NC "No connect: May be left unconnected.", AB12 NC "No connect: May be left unconnected.", AB15 NC "No connect: May be left unconnected.", AB16 NC "No connect: May be left unconnected.", AB17 NC "No connect: May be left unconnected.", AB18 NC "No connect: May be left unconnected.", AB19 NC "No connect: May be left unconnected.", AB22 DNU "Do not used.", AB23 DNU "Do not used.", AC1 DNU "Do not used.", AC2 DNU "Do not used.", AC3 NC "No connect: May be left unconnected.", AC4 NC "No connect: May be left unconnected.", AC5 NC "No connect: May be left unconnected.", AC6 NC "No connect: May be left unconnected.", AC7 NC "No connect: May be left unconnected.", AC8 NC "No connect: May be left unconnected.", AC9 NC "No connect: May be left unconnected.", AC10 NC "No connect: May be left unconnected.", AC11 NC "No connect: May be left unconnected.", AC12 NC "No connect: May be left unconnected.", AC13 NC "No connect: May be left unconnected.", AC15 NC "No connect: May be left unconnected.", AC16 NC "No connect: May be left unconnected.", AC17 NC "No connect: May be left unconnected.", AC18 NC "No connect: May be left unconnected.", AC19 NC "No connect: May be left unconnected.", AC20 NC "No connect: May be left unconnected.", AC22 DNU "Do not used.", AC23 DNU "Do not used.", B1 DNU "Do not used.", B2 DNU "Do not used.", B22 DNU "Do not used.", B23 DNU "Do not used.", L1 NC "No connect: May be left unconnected.", M1 NC "No connect: May be left unconnected.", M2 NC "No connect: May be left unconnected.", N1 NC "No connect: May be left unconnected.", N2 NC "No connect: May be left unconnected.", P1 NC "No connect: May be left unconnected.", R1 NC "No connect: May be left unconnected.", R2 NC "No connect: May be left unconnected.", T1 NC "No connect: May be left unconnected.", T2 NC "No connect: May be left unconnected.", U1 NC "No connect: May be left unconnected.", V1 NC "No connect: May be left unconnected.", V2 NC "No connect: May be left unconnected.", W1 NC "No connect: May be left unconnected.", W2 NC "No connect: May be left unconnected.", Y1 NC "No connect: May be left unconnected.", Y2 NC "No connect: May be left unconnected."

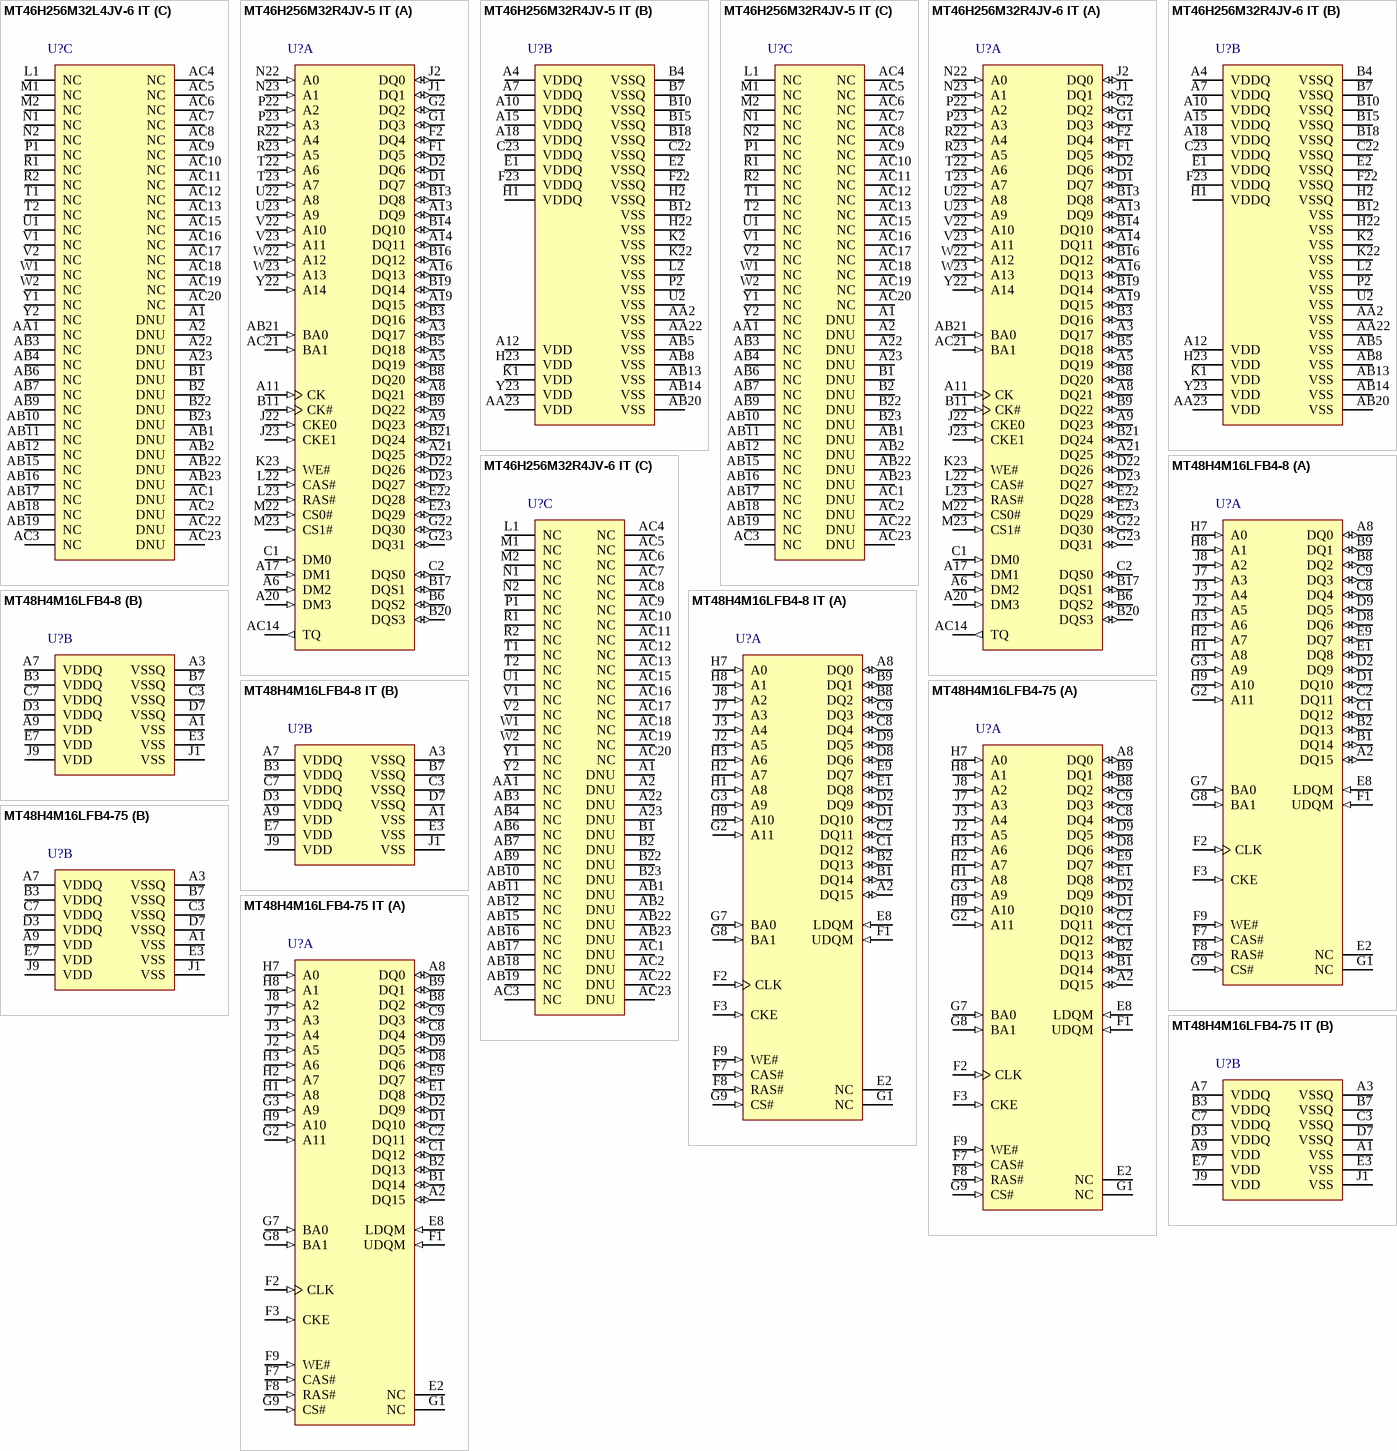
[diagram p19: symbols MT46H256M32L4JV-6 IT to MT48H4M16LFB4-75 IT]